# EAGLE library part MM74HC595 (library ECE477_Guitutar)
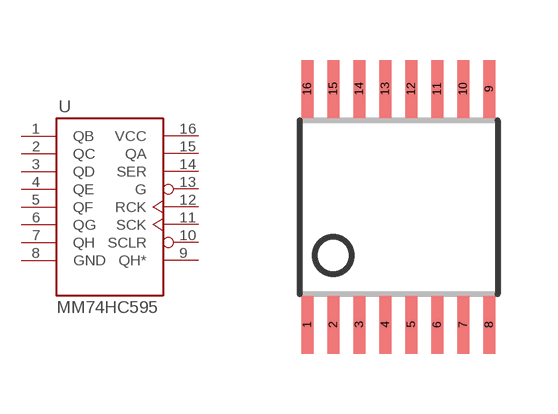
[diagram p2: symbol with the pads of MM74HC595MTCXCT-ND; footprint MM74HC595MTCXCT-ND]

Designator prefix -

## MM74HC595TSSOP-LD16  [MM74HC595MTCXCT-ND]
1  QB
2  QC
3  QD
4  QE
5  QF
6  QG
7  QH
8  GND
9  QH*
10  SCLR
11  SCK
12  RCK
13  G
14  SER
15  QA
16  VCC

## Footprint MM74HC595MTCXCT-ND (pad centres in mm)
16-Lead Plastic TSSOP (4.4mm) http://cds.linear.com/docs/Datasheet/1963fc.pdf
smd 0.3 x 1.45: 1 -2.275,-2.95; 2 -1.625,-2.95; 3 -0.975,-2.95; 4 -0.325,-2.95; 5 0.325,-2.95; 6 0.975,-2.95; 7 1.625,-2.95; 8 2.275,-2.95; 9 2.275,2.95; 10 1.625,2.95; 11 0.975,2.95; 12 0.325,2.95; 13 -0.325,2.95; 14 -0.975,2.95; 15 -1.625,2.95; 16 -2.275,2.95